# Altium footprint library Smart_lockV1.1.PcbLib: 33 footprints (part 1 of 3)
Each footprint in its own frame and in the unit in brackets; x right, y up, seen from the top. Pads: shape width x height; smd on the part's side, far side on the other; paste and mask are expansions set on the pad; w line width, h text height; cw(c..) or ccw(c..) is an arc to the next point about the centre after c.
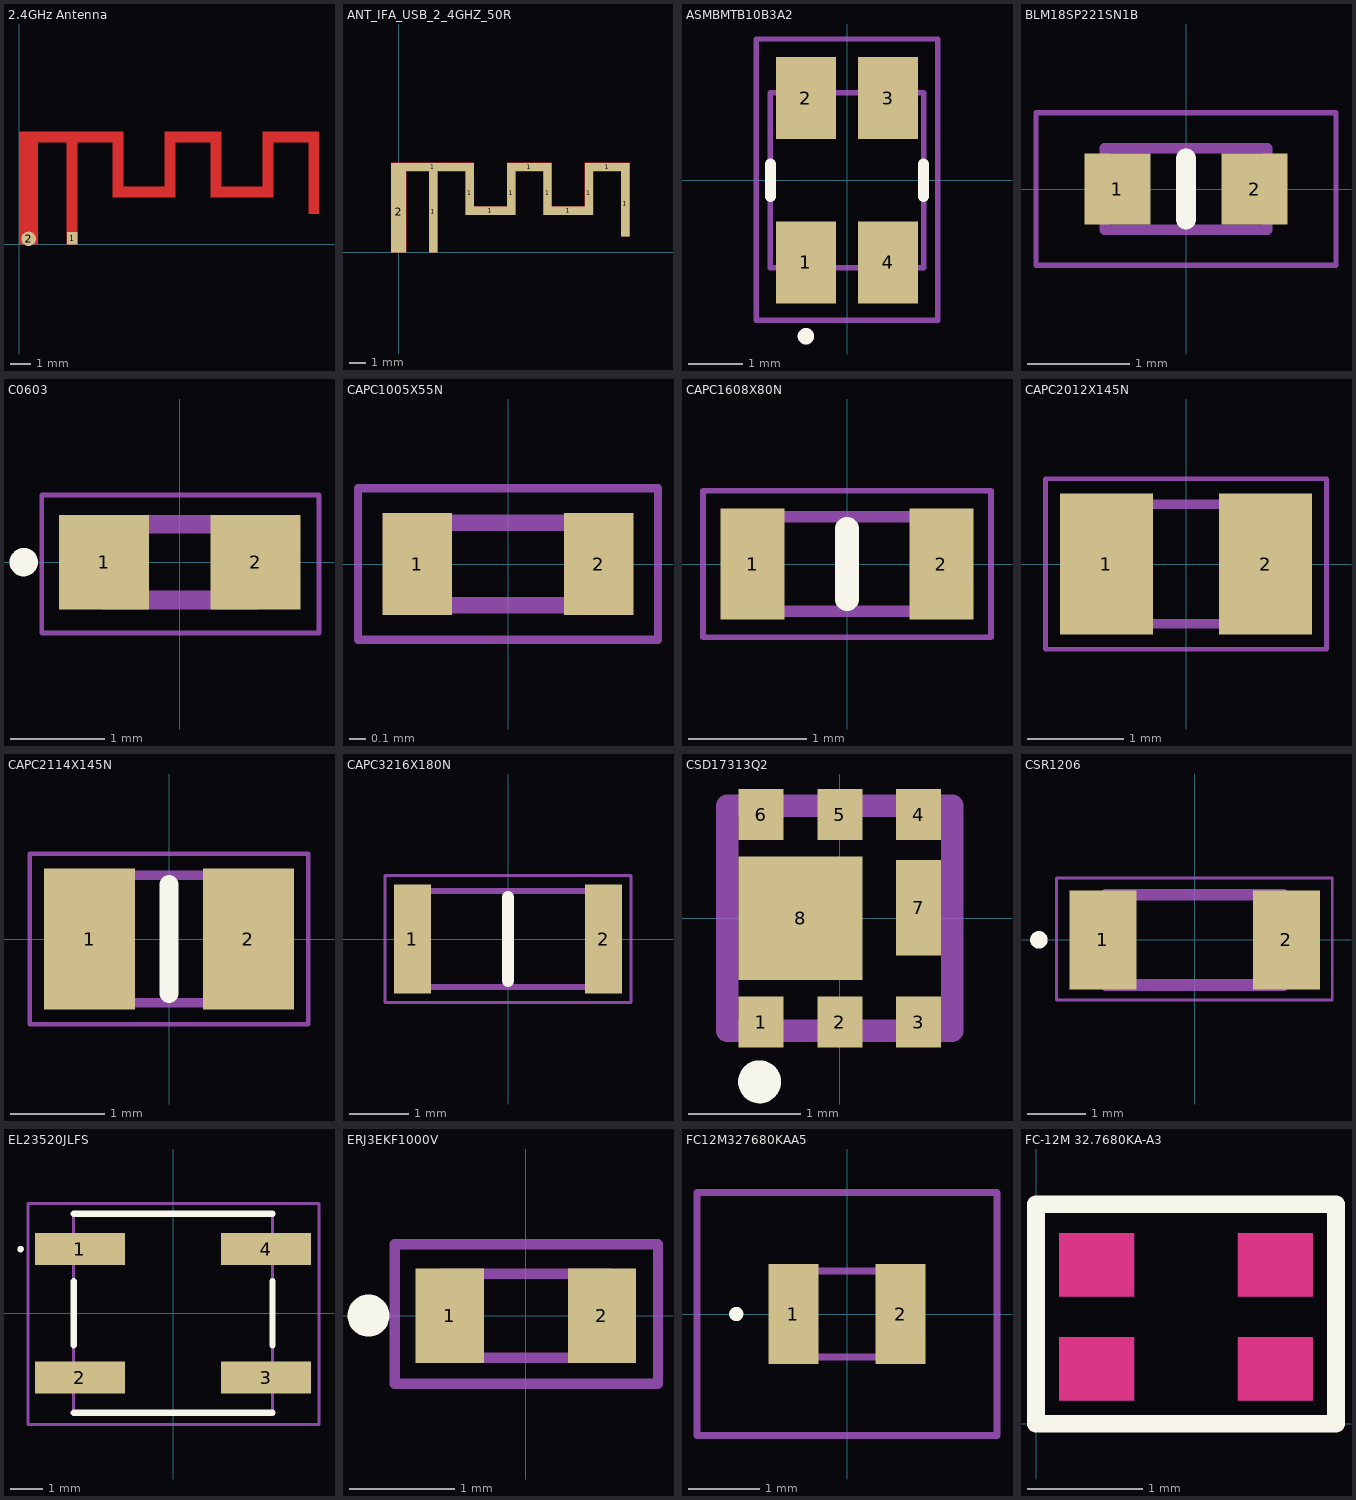
[diagram p0: the footprints below, top view; thin cyan lines are the x and y axes]

## 2.4GHz Antenna [mm]
pads (2):
  rect 0.5x0.6 smd mask+0: 1(2.55,0.29)
  round 0.7 smd paste-2539.97 mask-2539.97: 2(0.46,0.26)
Top Layer:
  region: 0,0 0.9,0 0.9,4.9 2.3,4.9 2.3,0 2.8,0 2.8,4.9 4.5,4.9 4.5,2.26 7.5,2.26 7.5,4.9 9.2,4.9 9.2,2.26 12.2,2.26 12.2,4.9 13.9,4.9 13.9,1.46 14.4,1.46 14.4,5.4 11.7,5.4 11.7,2.76 9.7,2.76 9.7,5.4 7,5.4 7,2.76 5,2.76 5,5.4 0,5.4
Top Paste:
  circle w0.35: c0.46,0.26 r0.175
  lines w0.6: 0.41,0.26 0.51,0.26
Top Solder:
  circle w0.35: c0.46,0.26 r0.175
  lines w0.6: 0.41,0.26 0.51,0.26

## ANT_IFA_USB_2_4GHZ_50R [mm]
pads (12):
  rect 5x0.5 smd paste-2539.97 mask+0.102: 1(2.05,5.15)
  rect 0.5x4.9 smd paste-2539.97 mask+0.102: 1(2.1,2.45)
  rect 0.5x2.64 smd paste-2539.97 mask+0.102: 1(4.3,3.58) 1(6.8,3.58) 1(9,3.58) 1(11.5,3.58)
  rect 2x0.5 smd paste-2539.97 mask+0.102: 1(5.55,2.51) 1(10.25,2.51)
  rect 2.7x0.5 smd paste-2539.97 mask+0.102: 1(7.9,5.15) 1(12.6,5.15)
  rect 0.5x3.94 smd paste-2539.97 mask+0.102: 1(13.7,2.93)
  rect 0.9x4.9 smd paste-2539.97 mask+0.102: 2(0,2.45)
Top Layer:
  region: -0.45,0.001 -0.45,5.4 4.55,5.4 4.55,2.76 6.55,2.76 6.55,5.4 9.25,5.4 9.25,2.76 11.25,2.76 11.25,5.4 13.95,5.4 13.95,0.96 13.45,0.96 13.45,4.9 11.747,4.9 11.747,2.26 8.75,2.26 8.75,4.896 8.75,4.9 7.049,4.9 7.05,2.26 4.05,2.26 4.05,4.897 4.05,4.9 2.35,4.9 2.35,0 1.85,0 1.85,4.896 1.85,4.9 0.45,4.9 0.45,0 0.446,0 -0.45,0

## ASMBMTB10B3A2 [mm]
pads (4):
  rect 1.1x1.5 smd: 1(-0.75,-1.5) 2(-0.75,1.5) 3(0.75,1.5) 4(0.75,-1.5)
Top Overlay:
  lines w0.2: -1.4,-0.3 -1.4,0.3 ; 1.4,-0.3 1.4,0.3 ; -0.75,-2.9 ccw(c-0.75,-2.85) -0.75,-2.8 ; -0.75,-2.9 cw(c-0.75,-2.85) -0.75,-2.8 ; -0.75,-2.9 ccw(c-0.75,-2.85) -0.75,-2.8
Mechanical 13:
  lines w0.1: -1.4,-1.6 -1.4,1.6 1.4,1.6 1.4,-1.6 -1.4,-1.6
Mechanical 15:
  lines w0.1: -1.66,-2.56 -1.66,2.58 1.66,2.58 1.66,-2.56 -1.66,-2.56
3D body "ASMB-MTB1-0B3A2.stp": height 1.9, standoff 0, extent -1.4,-1.736 1.4,1.736

## BLM18SP221SN1B [mm]
pads (2):
  rect 0.65x0.7 smd: 1(-0.675,0) 2(0.675,0)
Top Overlay:
  lines w0.2: 0,-0.3 0,0.3
Mechanical 13:
  lines w0.1: -0.8,-0.4 -0.8,0.4 0.8,0.4 0.8,-0.4 -0.8,-0.4
Mechanical 15:
  lines w0.05: -1.475,-0.75 -1.475,0.75 1.475,0.75 1.475,-0.75 -1.475,-0.75
3D body "BLM18HE152SN1D.stp": height 0.8, standoff 0, extent -0.8,-0.4 0.8,0.4

## C0603 [mm]
pads (2):
  rect 0.95x1 smd: 1(-0.8,0) 2(0.8,0)
Top Overlay:
  circle w0.2: c-1.65,0 r0.05
Mechanical 13:
  lines w0.2: -0.8,-0.4 0.8,-0.4 0.8,0.4 -0.8,0.4 -0.8,-0.4
Mechanical 15:
  lines w0.05: -1.46,-0.75 1.47,-0.75 1.47,0.71 -1.46,0.71 -1.46,-0.75
3D body "C0603C225K9PACTU.stp": height 0.87, standoff 0, extent -0.87,-0.48 0.88,0.47

## CAPC1005X55N [mm]
pads (2):
  rect 0.42x0.62 smd: 1(-0.55,0) 2(0.55,0)
Mechanical 13:
  lines w0.1: -0.5,-0.25 -0.5,0.25 0.5,0.25 0.5,-0.25 -0.5,-0.25
Mechanical 15:
  lines w0.05: -0.91,-0.46 -0.91,0.46 0.91,0.46 0.91,-0.46 -0.91,-0.46
3D body "C1005X7R1C103K050BA.stp": height 0.51, standoff 0.01, extent -0.55,-0.25 0.45,0.25

## CAPC1608X80N [mm]
pads (2):
  rect 0.54x0.94 smd: 1(-0.8,0) 2(0.8,0)
Top Overlay:
  lines w0.2: 0,-0.3 0,0.3
Mechanical 13:
  lines w0.1: -0.8,-0.4 -0.8,0.4 0.8,0.4 0.8,-0.4 -0.8,-0.4
Mechanical 15:
  lines w0.05: -1.22,-0.62 -1.22,0.62 1.22,0.62 1.22,-0.62 -1.22,-0.62
3D body "C1608X5R1A106M080AC.stp": height 0.8, standoff 0, extent -0.8,-0.4 0.8,0.4

## CAPC2012X145N [mm]
pads (2):
  rect 0.97x1.47 smd: 1(-0.83,0) 2(0.83,0)
Mechanical 13:
  lines w0.1: -1,-0.625 -1,0.625 1,0.625 1,-0.625 -1,-0.625
Mechanical 15:
  lines w0.05: -1.465,-0.89 -1.465,0.89 1.465,0.89 1.465,-0.89 -1.465,-0.89
3D body "GRM21BR71A106KE51L.stp": height 1.45, standoff 0, extent -1,-0.625 1,0.625

## CAPC2114X145N [mm]
pads (2):
  rect 0.96x1.49 smd: 1(-0.84,0) 2(0.84,0)
Top Overlay:
  lines w0.2: 0,-0.575 0,0.575
Mechanical 13:
  lines w0.1: -1.05,-0.675 1.05,-0.675 1.05,0.675 -1.05,0.675 -1.05,-0.675
Mechanical 15:
  lines w0.05: -1.47,-0.9 1.47,-0.9 1.47,0.9 -1.47,0.9 -1.47,-0.9
3D body "EMK212BB7106MG-T.stp": height 1.45, standoff 0, extent -1.05,-0.675 1.05,0.675

## CAPC3216X180N [mm]
pads (2):
  rect 0.62x1.82 smd: 1(-1.6,0) 2(1.6,0)
Top Overlay:
  lines w0.2: 0,-0.7 0,0.7
Mechanical 13:
  lines w0.1: -1.6,-0.8 -1.6,0.8 1.6,0.8 1.6,-0.8 -1.6,-0.8
Mechanical 15:
  lines w0.05: -2.06,-1.06 -2.06,1.06 2.06,1.06 2.06,-1.06 -2.06,-1.06
3D body "C3216X5R1A107M160AC.stp": height 1.6, standoff 0, extent -1.65,-0.8 1.55,0.8

## CSD17313Q2 [mm]
pads (8):
  rect 0.4x0.455 smd: 1(-0.7,-0.923) 2(0,-0.923) 3(0.7,-0.923) 4(0.7,0.923) 5(0,0.923) 6(-0.7,0.923)
  rect 0.4x0.85 smd: 7(0.7,0.096)
  rect 1.1x1.1 smd: 8(-0.35,0)
Top Overlay:
  circle w0.254: c-0.714,-1.453 r0.064
Mechanical 13:
  lines w0.2: -1,-1 1,-1 1,1 -1,1 -1,-1
3D body "CSD25310Q2.stp": height 0.8, standoff 0, extent -1,-1 1,1

## CSR1206 [mm]
pads (2):
  rect 1.15x1.7 smd: 1(-1.575,0) 2(1.575,0)
Top Overlay:
  circle w0.2: c-2.675,0 r0.05
Mechanical 13:
  lines w0.2: -1.525,-0.775 1.525,-0.775 1.525,0.775 -1.525,0.775 -1.525,-0.775
Mechanical 15:
  lines w0.05: -2.37,-1.03 2.36,-1.03 2.36,1.06 -2.37,1.06 -2.37,-1.03
3D body "CSR1206FKR100.stp": height 0.55, standoff 0, extent -1.534,-0.776 1.516,0.774

## EL23520JLFS [mm]
pads (4):
  rect 2.8x1 smd: 1(-2.9,2) 2(-2.9,-2) 3(2.9,-2) 4(2.9,2)
Top Overlay:
  lines w0.1: -4.8,2 cw(c-4.75,2) -4.7,2 cw(c-4.75,2) -4.8,2
  lines w0.2: -3.1,-3.1 3.1,-3.1 ; -3.1,-1 -3.1,1 ; -3.1,3.1 3.1,3.1 ; 3.1,-1 3.1,1
Mechanical 13:
  lines w0.1: -3.1,-3.1 -3.1,3.1 3.1,3.1 3.1,-3.1 -3.1,-3.1
Mechanical 15:
  lines w0.1: -4.52,-3.46 -4.52,3.42 4.55,3.42 4.55,-3.46 -4.52,-3.46
3D body "Download_STP_WS-TASV_430481035816_rev1.stp": height 3.5, standoff 0, extent -4.02,-3.11 3.98,3.09

## ERJ3EKF1000V [mm]
pads (2):
  rect 0.65x0.9 smd: 1(-0.725,0) 2(0.725,0)
Top Overlay:
  lines w0.2: -1.5,-0.1 cw(c-1.5,0) -1.5,0.1 cw(c-1.5,0) -1.5,-0.1
Mechanical 13:
  lines w0.1: -0.8,-0.4 0.8,-0.4 0.8,0.4 -0.8,0.4 -0.8,-0.4
Mechanical 15:
  lines w0.1: -1.25,-0.65 1.26,-0.65 1.26,0.68 -1.25,0.68 -1.25,-0.65
3D body "ERJ-3GEYJ472V.stp": height 0.45, standoff 0, extent -0.8,-0.4 0.8,0.4

## FC12M327680KAA5 [mm]
pads (2):
  rect 0.7x1.4 smd: 1(-0.75,0) 2(0.75,0)
Top Overlay:
  lines w0.1: -1.6,0 ccw(c-1.55,0) -1.5,0 ccw(c-1.55,0) -1.6,0
Mechanical 15:
  lines w0.1: -1.025,-0.6 1.025,-0.6 1.025,0.6 -1.025,0.6 -1.025,-0.6
Mechanical 20:
  lines w0.1: -2.1,-1.7 2.1,-1.7 2.1,1.7 -2.1,1.7 -2.1,-1.7

## FC-12M 32.7680KA-A3 [mm]
Top Layer:
  rectangle: 0.2,1.1 0.85,1.65
  rectangle: 1.75,0.2 2.4,0.75
  rectangle: 1.75,1.1 2.4,1.65
  rectangle: 0.2,0.2 0.85,0.75
Top Layer keep-out:
  region: 0.2,1.65 0.85,1.65 0.85,1.1 0.2,1.1
  region: 1.75,1.65 2.4,1.65 2.4,1.1 1.75,1.1
  region: 0.2,0.75 0.85,0.75 0.85,0.2 0.2,0.2
  region: 1.75,0.75 2.4,0.75 2.4,0.2 1.75,0.2
Top Overlay:
  lines w0.152: 0,0 0,1.9 2.6,1.9 2.6,0 0,0
Top Solder:
  region: 2.45,0.8 1.7,0.8 1.7,0.15 2.45,0.15
  region: 0.9,0.8 0.15,0.8 0.15,0.15 0.9,0.15
  region: 2.45,1.7 1.7,1.7 1.7,1.05 2.45,1.05
  region: 0.9,1.7 0.15,1.7 0.15,1.05 0.9,1.05